# Altium footprint library AltiumDesigner.PcbLib: 3 footprints
Each footprint in its own frame and in the unit in brackets; x right, y up, seen from the top. Pads: shape width x height; smd on the part's side, far side on the other; paste and mask are expansions set on the pad; w line width, h text height; cw(c..) or ccw(c..) is an arc to the next point about the centre after c.
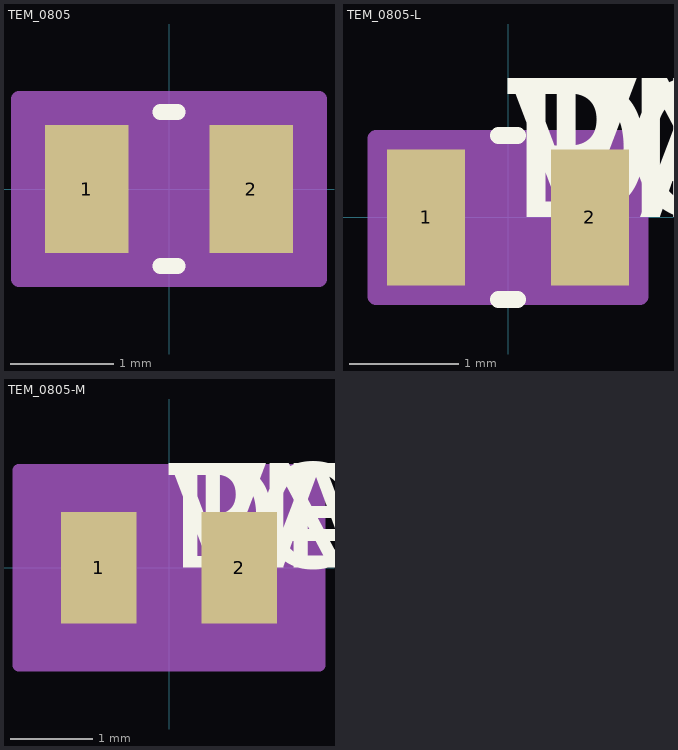
[diagram p0: the footprints below, top view; thin cyan lines are the x and y axes]

## TEM_0805 [mil]
pads (2):
  rect 32x49 smd: 1(-31.5,0) 2(31.5,0)
Top Overlay:
  lines w6: -3.39,-29.5 3.39,-29.5 ; -3.39,29.5 3.39,29.5
Mechanical 15:
  region: 57.5,-34.5 -57.5,-34.5 -57.5,34.5 57.5,34.5
  lines w6: -57.5,-34.5 57.5,-34.5 57.5,34.5 -57.5,34.5 -57.5,-34.5
3D body: height 10, standoff 0, extent 0,0 10,10

## TEM_0805-L [mil]
pads (2):
  rect 28x49 smd: 1(-29.5,0) 2(29.5,0)
Top Overlay:
  lines w6: -3.39,-29.5 3.39,-29.5 ; -3.39,29.5 3.39,29.5
  text "PN" at 0,0 h50
  text "DEV" at 0,0 h50
  text "VAL" at 0,0 h50
  text "TOL" at 0,0 h50
Mechanical 13:
  text "RefDes2" at 0,0 h50
Mechanical 15:
  region: 47.5,-28.5 -47.5,-28.5 -47.5,28.5 47.5,28.5
  lines w6: -47.5,-28.5 -47.5,28.5 47.5,28.5 47.5,-28.5 -47.5,-28.5
3D body: height 10, standoff 0, extent 0,0 10,10

## TEM_0805-M [mil]
pads (2):
  rect 36x53 smd: 1(-33.5,0) 2(33.5,0)
Top Overlay:
  text "PN" at 0,0 h50
  text "DEV" at 0,0 h50
  text "VAL" at 0,0 h50
  text "TOL" at 0,0 h50
Mechanical 13:
  text "RefDes2" at 0,0 h50
Mechanical 15:
  region: 71.5,-46.5 -71.5,-46.5 -71.5,46.5 71.5,46.5
  lines w6: -71.5,-46.5 -71.5,46.5 71.5,46.5 71.5,-46.5 -71.5,-46.5
3D body: height 10, standoff 0, extent 0,0 10,10